# Altium footprint library PCB - POTENTIOMETER - POT MODEL91A.PCBLIB: 1 footprints
Each footprint in its own frame and in the unit in brackets; x right, y up, seen from the top. Pads: shape width x height; smd on the part's side, far side on the other; paste and mask are expansions set on the pad; w line width, h text height; cw(c..) or ccw(c..) is an arc to the next point about the centre after c.
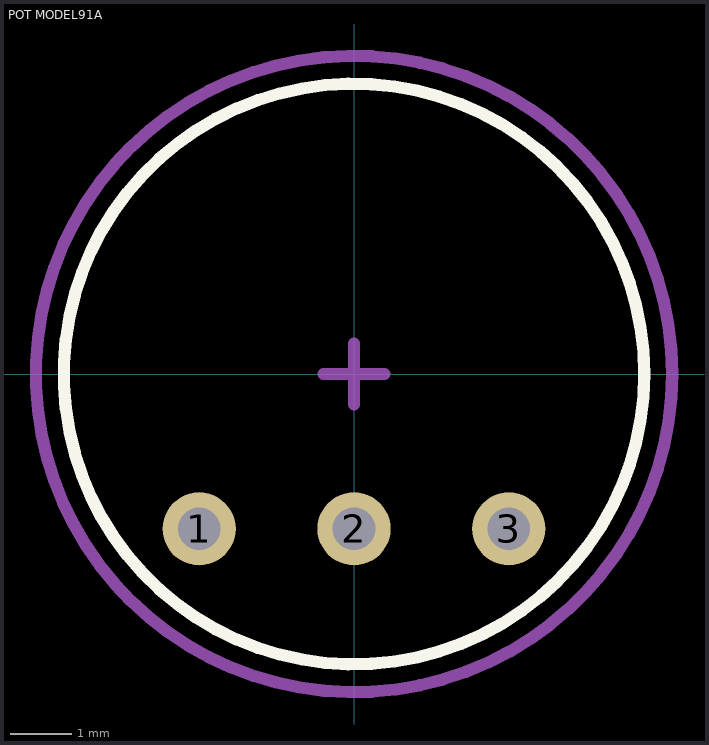
[diagram p0: the footprint, top view; thin cyan lines are the x and y axes]

## POT MODEL91A [mm]
height 5.08
pads (3):
  round 1.2 hole 0.7: 1(-2.54,-2.54) 2(0,-2.54) 3(2.54,-2.54)
Top Overlay:
  circle w0.2: c0,0 r4.763
Mechanical 15:
  circle w0.2: c0,0 r5.22
  lines w0.2: -0.5,0 0.5,0 ; 0,-0.5 0,0.5
3D body "91A-1 mod.STEP": height 4.89, standoff -1.79, extent -4.681,-4.877 4.681,4.699